# EAGLE library part 317990687 (library 317990687)
Sub-GHz Modules LoRa-E5 Wireless Module LoRa-E5 has a 28-pin SMD package Source: Datasheet <https://files.seeedstudio.com/products/317990687/res/LoRa-E5 module datasheet_V1.0.pdf>
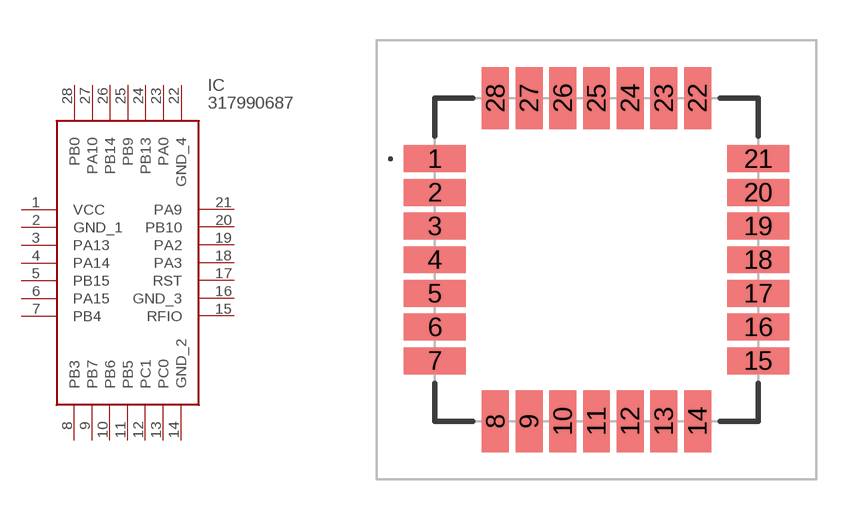
[diagram p0: symbol with the pads of 317990687; footprint 317990687]

Designator prefix IC

## 317990687 (Description: Sub-GHz Modules LoRa-E5 Wireless Module LoRa-E5 has a 28-pin SMD package; Height: 2.5mm; Manufacturer_Name: Seeed Studio; Manufacturer_Part_Number: 317990687; Mouser_Part_Number: 713-317990687; Mouser_Price-Stock: https://www.mouser.co.uk/ProductDetail/Seeed-Studio/317990687?qs=hd1VzrDQEGhZOj13wvzSLA%3D%3D)  [317990687]
1  VCC
2  GND_1
3  PA13
4  PA14
5  PB15
6  PA15
7  PB4
8  PB3
9  PB7
10  PB6
11  PB5
12  PC1
13  PC0
14  GND_2
15  RFIO
16  GND_3
17  RST
18  PA3
19  PA2
20  PB10
21  PA9
22  GND_4
23  PA0
24  PB13
25  PB9
26  PB14
27  PA10
28  PB0

## Footprint 317990687 (pad centres in mm)
317990687-5
smd 2.3 x 1: 1 -6,3.75; 2 -6,2.5; 3 -6,1.25; 4 -6,0; 5 -6,-1.25; 6 -6,-2.5; 7 -6,-3.75; 15 6,-3.75; 16 6,-2.5; 17 6,-1.25; 18 6,0; 19 6,1.25; 20 6,2.5; 21 6,3.75
smd 1 x 2.3: 8 -3.75,-6; 9 -2.5,-6; 10 -1.25,-6; 11 0,-6; 12 1.25,-6; 13 2.5,-6; 14 3.75,-6; 22 3.75,6; 23 2.5,6; 24 1.25,6; 25 0,6; 26 -1.25,6; 27 -2.5,6; 28 -3.75,6